# Altium footprint library aiskylab-14Connectors-20TestAndMechenical.PcbLib: 45 footprints (part 2 of 3)
Each footprint in its own frame and in the unit in brackets; x right, y up, seen from the top. Pads: shape width x height; smd on the part's side, far side on the other; paste and mask are expansions set on the pad; w line width, h text height; cw(c..) or ccw(c..) is an arc to the next point about the centre after c.
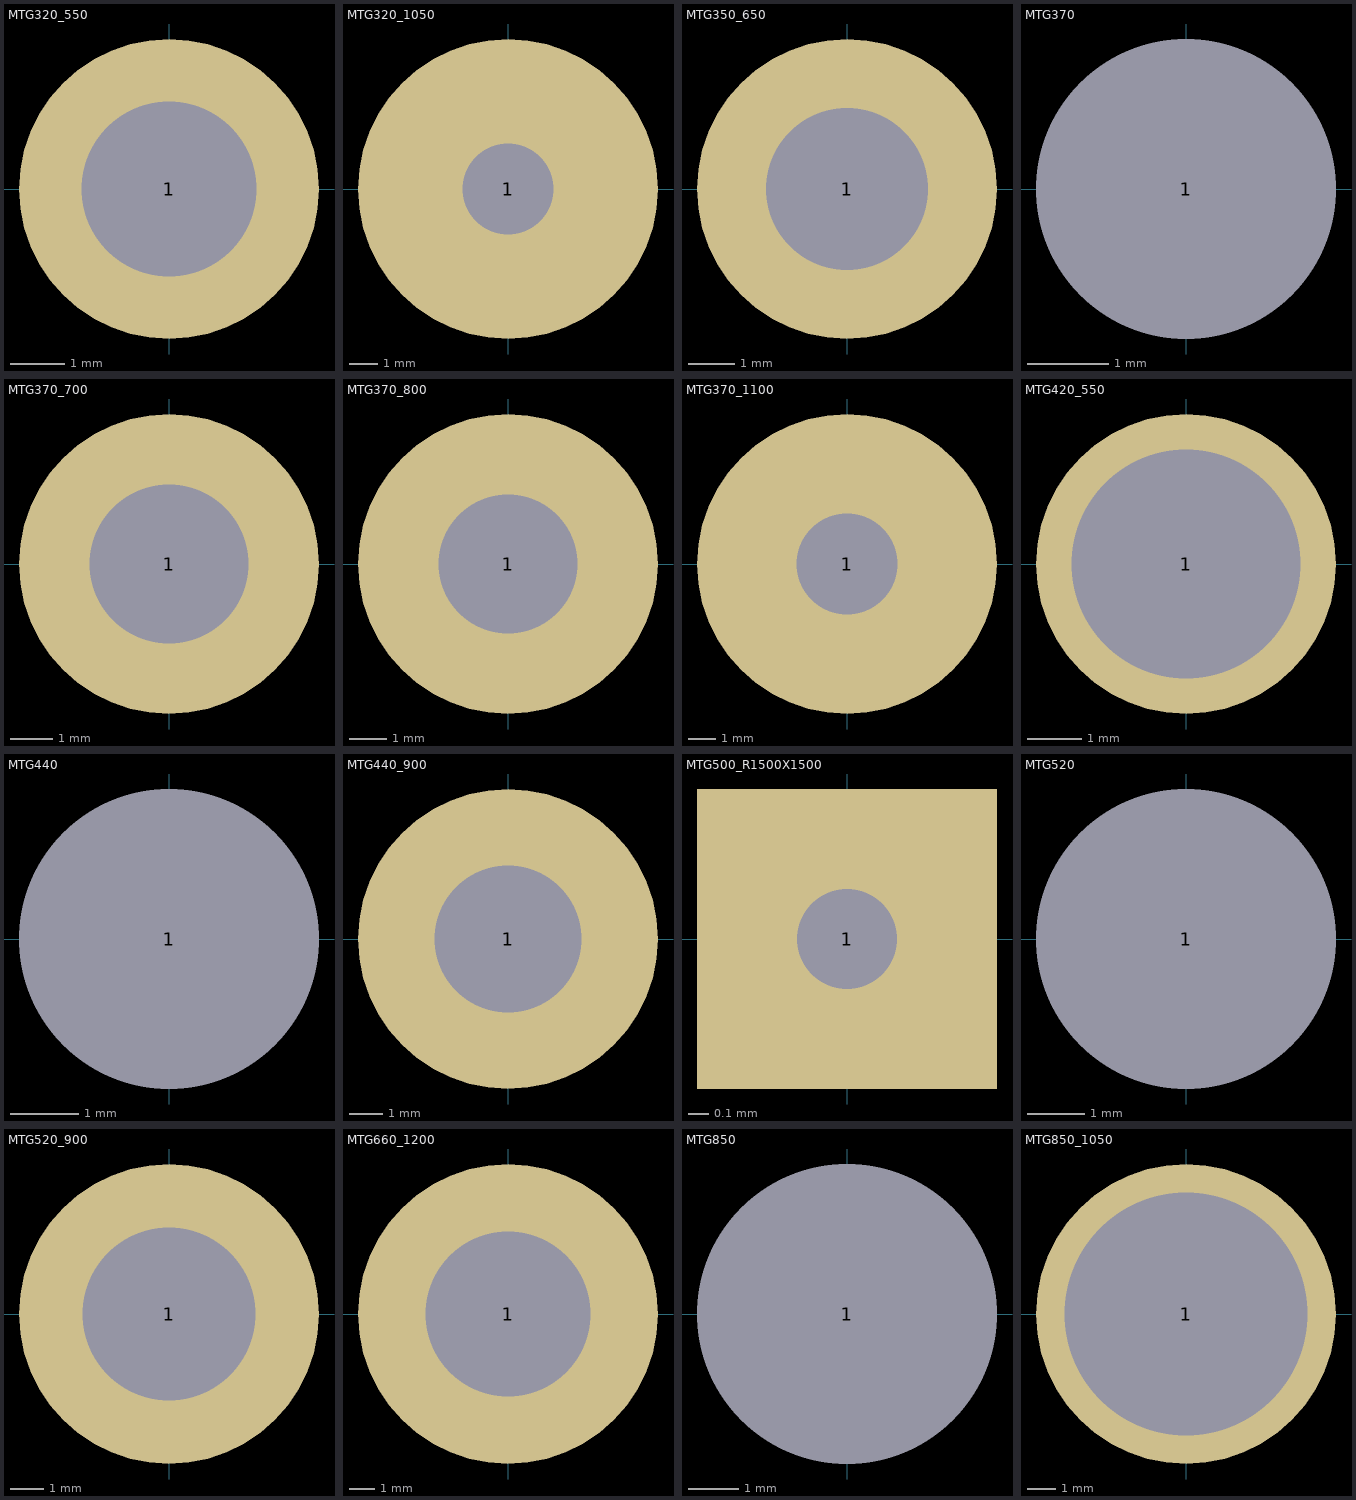
[diagram p1: the footprints below, top view; thin cyan lines are the x and y axes]

## MTG320_550 [mm] "Plated Through Hole: Hole Dia.=3.2mm Pad Dia.=5.5mm"
height 11.7
pads (1):
  round 5.5 hole 3.2: 1(0,0)
3D body "v550-320.stp": height 0.02, standoff -1.65, extent -2.75,-2.75 2.75,2.75

## MTG320_1050 [mm] "Plated Through Hole: Hole Dia.=3.2mm Pad Dia.=10.5mm"
height 11.7
pads (1):
  round 10.5 hole 3.2: 1(0,0)
3D body "v1050-320.stp": height 0.02, standoff -1.65, extent -5.25,-5.25 5.25,5.25

## MTG350_650 [mm] "Plated Through Hole: Hole Dia.=3.5mm Pad Dia.=6.5mm"
height 11.7
pads (1):
  round 6.5 hole 3.5: 1(0,0)
3D body "6-6-3_4-1_8.stp": height 0.02, standoff -1.82, extent -3,-3 3,3

## MTG370 [mm] "Non Plated Through Hole: Hole Dia.=3.7mm"
height 11.7
pads (1):
  round 3.4 hole 3.7 unplated: 1(0,0)

## MTG370_700 [mm] "Plated Through Hole: Hole Dia.=3.7mm Pad Dia.=7.0mm"
height 11.7
pads (1):
  round 7 hole 3.7: 1(0,0)
3D body "v700-370.stp": height 0.02, standoff -1.65, extent -3.5,-3.5 3.5,3.5

## MTG370_800 [mm] "Plated Through Hole: Hole Dia.=3.7mm Pad Dia.=8.0mm"
height 11.7
pads (1):
  round 8 hole 3.7: 1(0,0)
3D body "v800-370.stp": height 0.02, standoff -1.65, extent -4,-4 4,4

## MTG370_1100 [mm] "Plated Through Hole: Hole Dia.=3.7mm Pad Dia.=11.0mm"
height 11.7
pads (1):
  round 11 hole 3.7: 1(0,0)
3D body "v1100-370.stp": height 0.02, standoff -1.65, extent -5.5,-5.5 5.5,5.5

## MTG420_550 [mm] "Plated Through Hole: Hole Dia.=4.2mm Pad Dia.=5.5mm"
height 11.7
pads (1):
  round 5.5 hole 4.2: 1(0,0)
3D body "v550-420.stp": height 0.02, standoff -1.65, extent -2.75,-2.75 2.75,2.75

## MTG440 [mm] "Non Plated Through Hole: Hole Dia.=4.4mm"
height 11.7
pads (1):
  round 4.1 hole 4.4 unplated: 1(0,0)

## MTG440_900 [mm] "Plated Through Hole: Hole Dia.=4.4mm Pad Dia.=9.0mm"
height 11.7
pads (1):
  round 9 hole 4.4: 1(0,0)
3D body "v900-440.stp": height 0.02, standoff -1.65, extent -4.5,-4.5 4.5,4.5

## MTG500_R1500X1500 [mm] "Plated Through Hole: Hole Dia.=0.5mm Square Pad 1.5mm x 1.5mm"
height 11.7
pads (1):
  rect 1.5x1.5 hole 0.5: 1(0,0)
3D body "vF150-050.stp": height 0.01, standoff -1.65, extent -0.75,-0.75 0.75,0.75

## MTG520 [mm] "Non Plated Through Hole: Hole Dia.=5.2mm"
height 11.7
pads (1):
  round 1 hole 5.2 unplated mask+2.1: 1(0,0)

## MTG520_900 [mm] "Plated Through Hole: Hole Dia.=5.2mm Pad Dia.=9.0mm"
height 11.7
pads (1):
  round 9 hole 5.2: 1(0,0)
3D body "v900-520.stp": height 0.02, standoff -1.65, extent -4.5,-4.5 4.5,4.5

## MTG660_1200 [mm] "Plated Through Hole: Hole Dia.=6.6mm Pad Dia.=12.0mm"
height 11.7
pads (1):
  round 12 hole 6.6: 1(0,0)
3D body "v1200-660.stp": height 0.02, standoff -1.65, extent -6,-6 6,6

## MTG850 [mm] "Non Plated Through Hole: Hole Dia.=8.5mm"
height 11.7
pads (1):
  round 1 hole 6 unplated: 1(0,0)

## MTG850_1050 [mm] "Plated Through Hole: Hole Dia.=8.5mm Pad Dia.=10.5mm"
height 11.7
pads (1):
  round 10.5 hole 8.5: 1(0,0)
3D body "v1050-850.stp": height 0.02, standoff -1.65, extent -5.25,-5.25 5.25,5.25